# EAGLE library part TLV5616 (library EE445L)
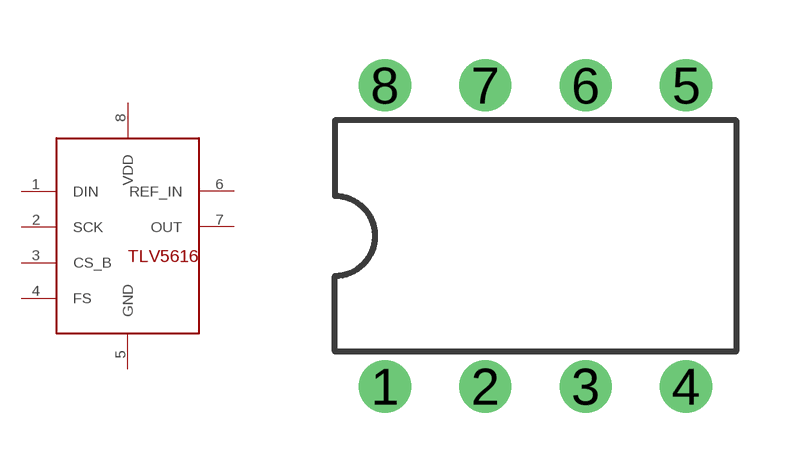
[diagram p24: symbol with the pads of DIL08; footprint DIL08]

Designator prefix -

## TLV5616  [DIL08]
1  DIN
2  SCK
3  CS_B
4  FS
5  GND
6  REF_IN
7  OUT
8  VDD

## Footprint DIL08 (pad centres in mm)
Dual In Line Package
drill 0.813 pad 1.27: 1 -3.81,-3.81; 2 -1.27,-3.81; 3 1.27,-3.81; 4 3.81,-3.81; 5 3.81,3.81; 6 1.27,3.81; 7 -1.27,3.81; 8 -3.81,3.81